# Altium footprint library MOTHERBOARD.PcbLib: 73 footprints (part 3 of 5)
Each footprint in its own frame and in the unit in brackets; x right, y up, seen from the top. Pads: shape width x height; smd on the part's side, far side on the other; paste and mask are expansions set on the pad; w line width, h text height; cw(c..) or ccw(c..) is an arc to the next point about the centre after c.
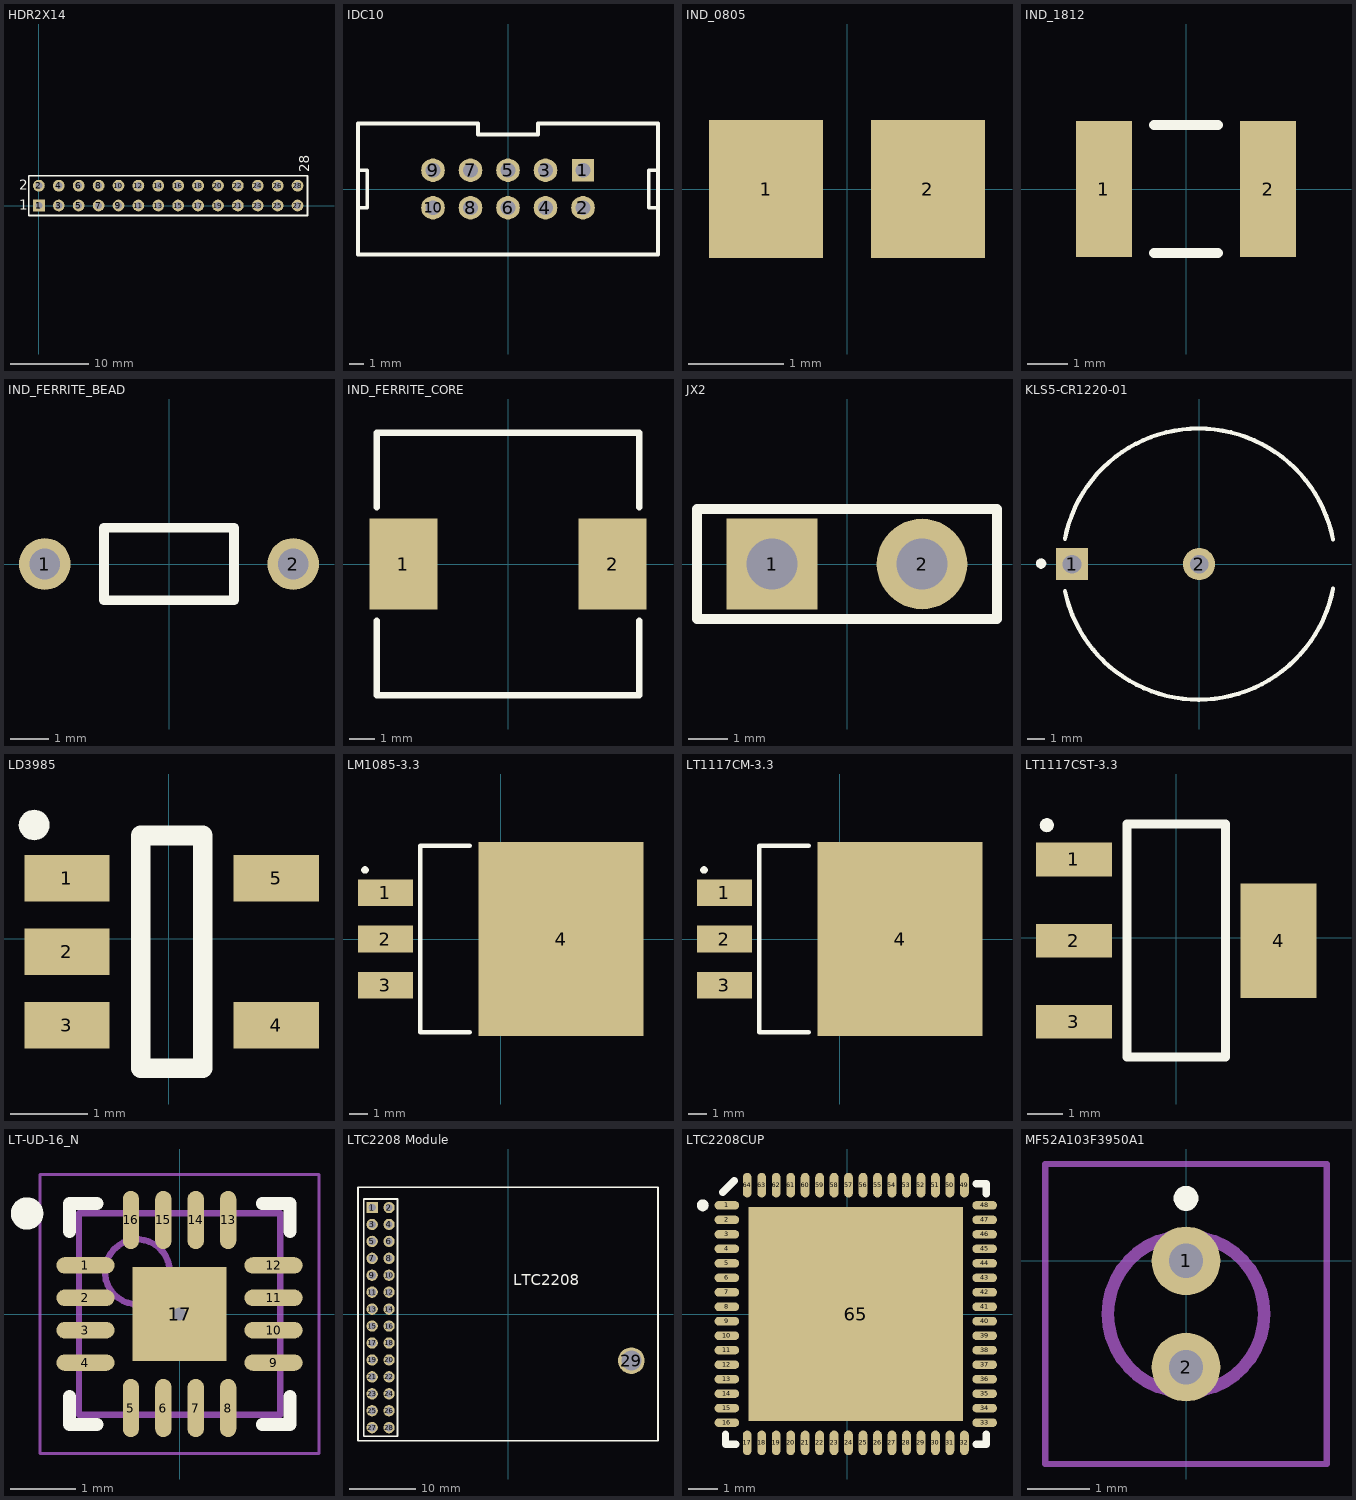
[diagram p2: the footprints below, top view; thin cyan lines are the x and y axes]

## HDR2X14 [mm] "Connector; Header; 14x2 Position"
pads (28):
  rect 1.5x1.5 hole 0.9: 1(0,0)
  round 1.5 hole 0.9: 2(0,2.54) 3(2.54,0) 4(2.54,2.54) 5(5.08,0) 6(5.08,2.54) 7(7.62,0) 8(7.62,2.54) 9(10.16,0) 10(10.16,2.54) 11(12.7,0) 12(12.7,2.54) 13(15.24,0) 14(15.24,2.54) 15(17.78,0) 16(17.78,2.54) 17(20.32,0) 18(20.32,2.54) 19(22.86,0) 20(22.86,2.54) 21(25.4,0) 22(25.4,2.54) 23(27.94,0) 24(27.94,2.54) 25(30.48,0) 26(30.48,2.54) 27(33.02,0) 28(33.02,2.54)
Top Overlay:
  lines w0.2: -1.27,-1.27 34.29,-1.27 34.29,3.81 -1.27,3.81 -1.27,-1.27
  text "28" at 34.487,4.22 h1.27
  text "1" at -2.54,-0.508 h1.27
  text "2" at -2.54,2.032 h1.27

## IDC10 [mm]
pads (10):
  rect 1.5x1.5 hole 1: 1(5.08,1.27)
  round 1.6 hole 1: 2(5.08,-1.27) 3(2.54,1.27) 4(2.54,-1.27) 5(0,1.27) 6(0,-1.27) 7(-2.54,1.27) 8(-2.54,-1.27) 9(-5.08,1.27) 10(-5.08,-1.27)
Top Overlay:
  lines w0.254: -10.16,-1.27 -9.526,-1.27 -9.526,1.27 -10.16,1.27 ; 10.16,-1.27 9.526,-1.27 9.526,1.27 10.16,1.27 ; -10.16,-4.445 -10.16,4.445 -2.032,4.445 -2.032,3.683 2.032,3.683 2.032,4.445 10.16,4.445 10.16,-4.445 -10.16,-4.445

## IND_0805 [mm]
pads (2):
  rect 1.2x1.45 smd: 1(-0.85,0) 2(0.85,0)

## IND_1812 [mm]
pads (2):
  rect 1.4x3.4 smd: 1(-2.05,0) 2(2.05,0)
Top Overlay:
  lines w0.254: -0.8,-1.6 0.8,-1.6 ; -0.8,1.6 0.8,1.6

## IND_FERRITE_BEAD [mm]
pads (2):
  round 1.35 hole 0.8: 1(-3.25,0) 2(3.25,0)
Top Overlay:
  lines w0.254: -1.703,-0.95 -1.703,0.95 1.703,0.95 1.703,-0.95 -1.703,-0.95

## IND_FERRITE_CORE [mm]
pads (2):
  rect 2.7x3.6 smd: 1(-4.15,0) 2(4.15,0)
Top Overlay:
  lines w0.254: -5.2,-2.25 -5.2,-5.2 5.2,-5.2 5.2,-2.25 ; -5.2,2.25 -5.2,5.2 5.2,5.2 5.2,2.25

## JX2 [mm]
pads (2):
  rect 2.3x2.3 hole 1.3: 1(-1.905,0)
  round 2.3 hole 1.3: 2(1.905,0)
Top Overlay:
  lines w0.254: -3.81,-1.4 -3.81,1.4 3.81,1.4 3.81,-1.4 -3.81,-1.4

## KLS5-CR1220-01 [mm]
pads (2):
  rect 1.9x1.9 hole 1.1: 1(-7.493,0)
  round 1.9 hole 1.1: 2(0,0)
Top Overlay:
  region: -9.021,0.035 -9.025,0.087 -9.039,0.137 -9.061,0.185 -9.091,0.227 -9.128,0.264 -9.171,0.294 -9.218,0.317 -9.269,0.33 -9.321,0.335 -9.373,0.33 -9.423,0.317 -9.471,0.294 -9.513,0.264 -9.55,0.227 -9.58,0.185 -9.602,0.137 -9.616,0.087 -9.621,0.035 -9.616,-0.017 -9.602,-0.068 -9.58,-0.115 -9.55,-0.158 -9.513,-0.195 -9.471,-0.225 -9.423,-0.247 -9.373,-0.261 -9.321,-0.265 -9.269,-0.261 -9.218,-0.247 -9.171,-0.225 -9.128,-0.195 -9.091,-0.158 -9.061,-0.115 -9.039,-0.068 -9.025,-0.017
  lines w0.254: -7.909,-1.6 ccw(c-0.006,0.08) -0.006,-8 ; -7.909,1.502 cw(c-0.026,-0.031) -0.026,8 ; -0.052,-8 ccw(c-0.052,0.102) 7.902,-1.444 ; -0.046,8 cw(c-0.046,-0.096) 7.901,1.449

## LD3985 [mm]
pads (5):
  rect 1.1x0.6 smd: 1(-1.316,0.785) 2(-1.316,-0.165) 3(-1.316,-1.115) 4(1.384,-1.115) 5(1.384,0.785)
Top Overlay:
  region: -1.543,1.469 -1.546,1.503 -1.555,1.536 -1.569,1.567 -1.589,1.595 -1.613,1.619 -1.641,1.638 -1.672,1.653 -1.704,1.662 -1.738,1.665 -1.772,1.662 -1.805,1.653 -1.836,1.638 -1.864,1.619 -1.888,1.595 -1.908,1.567 -1.922,1.536 -1.931,1.503 -1.934,1.469 -1.931,1.435 -1.922,1.402 -1.908,1.371 -1.888,1.343 -1.864,1.319 -1.836,1.3 -1.805,1.285 -1.772,1.276 -1.738,1.273 -1.704,1.276 -1.672,1.285 -1.641,1.3 -1.613,1.319 -1.589,1.343 -1.569,1.371 -1.555,1.402 -1.546,1.435
  lines w0.254: -0.365,-1.665 0.435,-1.665 0.435,1.335 -0.365,1.335 -0.365,-1.665

## LM1085-3.3 [mm]
pads (4):
  rect 3x1.45 smd: 1(-6.3,2.54) 2(-6.3,0) 3(-6.3,-2.54)
  rect 9x10.6 smd: 4(3.3,0)
Top Overlay:
  region: -7.223,3.776 -7.226,3.81 -7.235,3.843 -7.249,3.874 -7.269,3.902 -7.293,3.926 -7.321,3.946 -7.352,3.96 -7.385,3.969 -7.419,3.972 -7.453,3.969 -7.485,3.96 -7.517,3.946 -7.544,3.926 -7.569,3.902 -7.588,3.874 -7.603,3.843 -7.611,3.81 -7.614,3.776 -7.611,3.742 -7.603,3.709 -7.588,3.678 -7.569,3.651 -7.544,3.626 -7.517,3.607 -7.485,3.592 -7.453,3.584 -7.419,3.581 -7.385,3.584 -7.352,3.592 -7.321,3.607 -7.293,3.626 -7.269,3.651 -7.249,3.678 -7.235,3.709 -7.226,3.742
  lines w0.254: -1.7,-5.1 -4.401,-5.1 -4.401,5.1 -1.7,5.1

## LT1117CM-3.3 [mm]
pads (4):
  rect 3x1.45 smd: 1(-6.3,2.54) 2(-6.3,0) 3(-6.3,-2.54)
  rect 9x10.6 smd: 4(3.3,0)
Top Overlay:
  region: -7.223,3.776 -7.226,3.81 -7.235,3.843 -7.249,3.874 -7.269,3.902 -7.293,3.926 -7.321,3.946 -7.352,3.96 -7.385,3.969 -7.419,3.972 -7.453,3.969 -7.485,3.96 -7.517,3.946 -7.544,3.926 -7.569,3.902 -7.588,3.874 -7.603,3.843 -7.611,3.81 -7.614,3.776 -7.611,3.742 -7.603,3.709 -7.588,3.678 -7.569,3.651 -7.544,3.626 -7.517,3.607 -7.485,3.592 -7.453,3.584 -7.419,3.581 -7.385,3.584 -7.352,3.592 -7.321,3.607 -7.293,3.626 -7.269,3.651 -7.249,3.678 -7.235,3.709 -7.226,3.742
  lines w0.254: -1.7,-5.1 -4.401,-5.1 -4.401,5.1 -1.7,5.1

## LT1117CST-3.3 [mm]
pads (4):
  rect 2.15x0.95 smd: 1(-2.9,2.215) 2(-2.9,-0.085) 3(-2.9,-2.385)
  rect 2.15x3.25 smd: 4(2.9,-0.085)
Top Overlay:
  region: -3.471,3.189 -3.474,3.223 -3.483,3.256 -3.497,3.287 -3.517,3.315 -3.541,3.339 -3.569,3.358 -3.6,3.373 -3.633,3.381 -3.667,3.384 -3.701,3.381 -3.734,3.373 -3.765,3.358 -3.793,3.339 -3.817,3.315 -3.837,3.287 -3.851,3.256 -3.86,3.223 -3.863,3.189 -3.86,3.155 -3.851,3.122 -3.837,3.091 -3.817,3.063 -3.793,3.039 -3.765,3.019 -3.734,3.005 -3.701,2.996 -3.667,2.993 -3.633,2.996 -3.6,3.005 -3.569,3.019 -3.541,3.039 -3.517,3.063 -3.497,3.091 -3.483,3.122 -3.474,3.155
  lines w0.254: -1.4,-3.384 1.4,-3.384 1.4,3.215 -1.4,3.215 -1.4,-3.384

## LT-UD-16_N [mm] "QFN, 16-Leads, Body 3x3mm, Pitch 0.5mm, Thermal Pad 1.45x1.45mm, IPC Medium Density"
height 0.8
pads (17):
  oval 0.9x0.25 smd: 1(-1.45,0.75) 2(-1.45,0.25) 3(-1.45,-0.25) 4(-1.45,-0.75) 9(1.45,-0.75) 10(1.45,-0.25) 11(1.45,0.25) 12(1.45,0.75)
  oval 0.25x0.9 smd: 5(-0.75,-1.45) 6(-0.25,-1.45) 7(0.25,-1.45) 8(0.75,-1.45) 13(0.75,1.45) 14(0.25,1.45) 15(-0.25,1.45) 16(-0.75,1.45)
  rect 1.45x1.45 smd: 17(0,0)
via 0,0 diameter 0.5 hole 0.2
Top Overlay:
  circle w0.25: c-2.35,1.55 r0.125
  lines w0.2: -1.7,-1.275 -1.7,-1.7 -1.275,-1.7 ; -1.7,1.275 -1.7,1.7 -1.275,1.7 ; 1.275,-1.7 1.7,-1.7 1.7,-1.275 ; 1.275,1.7 1.7,1.7 1.7,1.275
Mechanical 13:
  circle w0.1: c-0.65,0.65 r0.5
  lines w0.1: -1.55,-1.55 1.55,-1.55 1.55,1.55 -1.55,1.55 -1.55,-1.55
Mechanical 15:
  lines w0.05: -2.15,-2.15 2.15,-2.15 2.15,2.15 -2.15,2.15 -2.15,-2.15
  lines w0.1: -0.5,0 0.5,0 ; 0,-0.5 0,0.5
3D body: height 0.8, standoff 0, extent -1.55,-1.55 1.55,1.55

## LTC2208 Module [mm]
pads (29):
  rect 1.7x1.7 hole 1.1: 1(-20.38,15.97)
  round 1.7 hole 1.1: 2(-17.84,15.97) 3(-20.38,13.43) 4(-17.84,13.43) 5(-20.38,10.89) 6(-17.84,10.89) 7(-20.38,8.35) 8(-17.84,8.35) 9(-20.38,5.81) 10(-17.84,5.81) 11(-20.38,3.27) 12(-17.84,3.27) 13(-20.38,0.73) 14(-17.84,0.73) 15(-20.38,-1.81) 16(-17.84,-1.81) 17(-20.38,-4.35) 18(-17.84,-4.35) 19(-20.38,-6.89) 20(-17.84,-6.89) 21(-20.38,-9.43) 22(-17.84,-9.43) 23(-20.38,-11.97) 24(-17.84,-11.97) 25(-20.38,-14.51) 26(-17.84,-14.51) 27(-20.38,-17.05) 28(-17.84,-17.05)
  round 4 hole 3: 29(18.5,-7)
Top Overlay:
  lines w0.254: -22.5,-19 22.5,-19 22.5,19 -22.5,19 -22.5,-19 ; -21.649,-18.32 -16.569,-18.32 -16.569,17.241 -21.649,17.241 -21.649,-18.32
  text "LTC2208" at 0.8,4.298 h1.67

## LTC2208CUP [mm]
pads (65):
  oval 0.85x0.3 smd: 1(-4.147,3.75) 2(-4.147,3.25) 3(-4.147,2.75) 4(-4.147,2.25) 5(-4.147,1.75) 6(-4.147,1.25) 7(-4.147,0.75) 8(-4.147,0.25) 9(-4.147,-0.25) 10(-4.147,-0.75) 11(-4.147,-1.25) 12(-4.147,-1.75) 13(-4.147,-2.25) 14(-4.147,-2.75) 15(-4.147,-3.25) 16(-4.147,-3.75) 33(4.753,-3.75) 34(4.753,-3.25) 35(4.753,-2.75) 36(4.753,-2.25) 37(4.753,-1.75) 38(4.753,-1.25) 39(4.753,-0.75) 40(4.753,-0.25) 41(4.753,0.25) 42(4.753,0.75) 43(4.753,1.25) 44(4.753,1.75) 45(4.753,2.25) 46(4.753,2.75) 47(4.753,3.25) 48(4.753,3.75)
  oval 0.3x0.85 smd: 17(-3.447,-4.45) 18(-2.947,-4.45) 19(-2.447,-4.45) 20(-1.947,-4.45) 21(-1.447,-4.45) 22(-0.947,-4.45) 23(-0.447,-4.45) 24(0.053,-4.45) 25(0.553,-4.45) 26(1.053,-4.45) 27(1.553,-4.45) 28(2.053,-4.45) 29(2.553,-4.45) 30(3.053,-4.45) 31(3.553,-4.45) 32(4.053,-4.45) 49(4.053,4.45) 50(3.553,4.45) 51(3.053,4.45) 52(2.553,4.45) 53(2.053,4.45) 54(1.553,4.45) 55(1.053,4.45) 56(0.553,4.45) 57(0.053,4.45) 58(-0.447,4.45) 59(-0.947,4.45) 60(-1.447,4.45) 61(-1.947,4.45) 62(-2.447,4.45) 63(-2.947,4.45) 64(-3.447,4.45)
  rect 7.4x7.4 smd: 65(0.303,0)
Top Overlay:
  region: -4.779,3.75 -4.782,3.785 -4.791,3.818 -4.806,3.85 -4.826,3.879 -4.851,3.903 -4.879,3.923 -4.911,3.938 -4.944,3.947 -4.979,3.95 -5.013,3.947 -5.047,3.938 -5.078,3.923 -5.107,3.903 -5.132,3.879 -5.151,3.85 -5.166,3.818 -5.175,3.785 -5.178,3.75 -5.175,3.716 -5.166,3.682 -5.151,3.651 -5.132,3.622 -5.107,3.598 -5.078,3.578 -5.047,3.563 -5.013,3.554 -4.979,3.551 -4.944,3.554 -4.911,3.563 -4.879,3.578 -4.851,3.598 -4.826,3.622 -4.806,3.651 -4.791,3.682 -4.782,3.716
  lines w0.254: -4.293,4.2 -3.894,4.6 ; -4.192,-4.15 -4.192,-4.5 -3.842,-4.5 ; 4.453,-4.5 4.803,-4.5 4.803,-4.15 ; 4.453,4.5 4.803,4.5 4.803,4.15

## MF52A103F3950A1 [mm]
pads (2):
  round 1.1 hole 0.55: 1(0,0) 2(0,-1.7)
Top Overlay:
  lines w0.2: -0.1,1 cw(c0,1) 0.1,1 cw(c0,1) -0.1,1
Mechanical 13:
  lines w0.2: -1.25,-0.85 cw(c0,-0.85) 1.25,-0.85 cw(c0,-0.85) -1.25,-0.85
Mechanical 15:
  lines w0.1: -2.25,-3.25 -2.25,1.55 2.25,1.55 2.25,-3.25 -2.25,-3.25
3D body "MF52A103F3950_A1_.stp": height 4.1, standoff -5, extent -1.25,-2.1 1.25,0.4